# Altium footprint library LED Diode.PcbLib: 7 footprints
Each footprint in its own frame and in the unit in brackets; x right, y up, seen from the top. Pads: shape width x height; smd on the part's side, far side on the other; paste and mask are expansions set on the pad; w line width, h text height; cw(c..) or ccw(c..) is an arc to the next point about the centre after c.
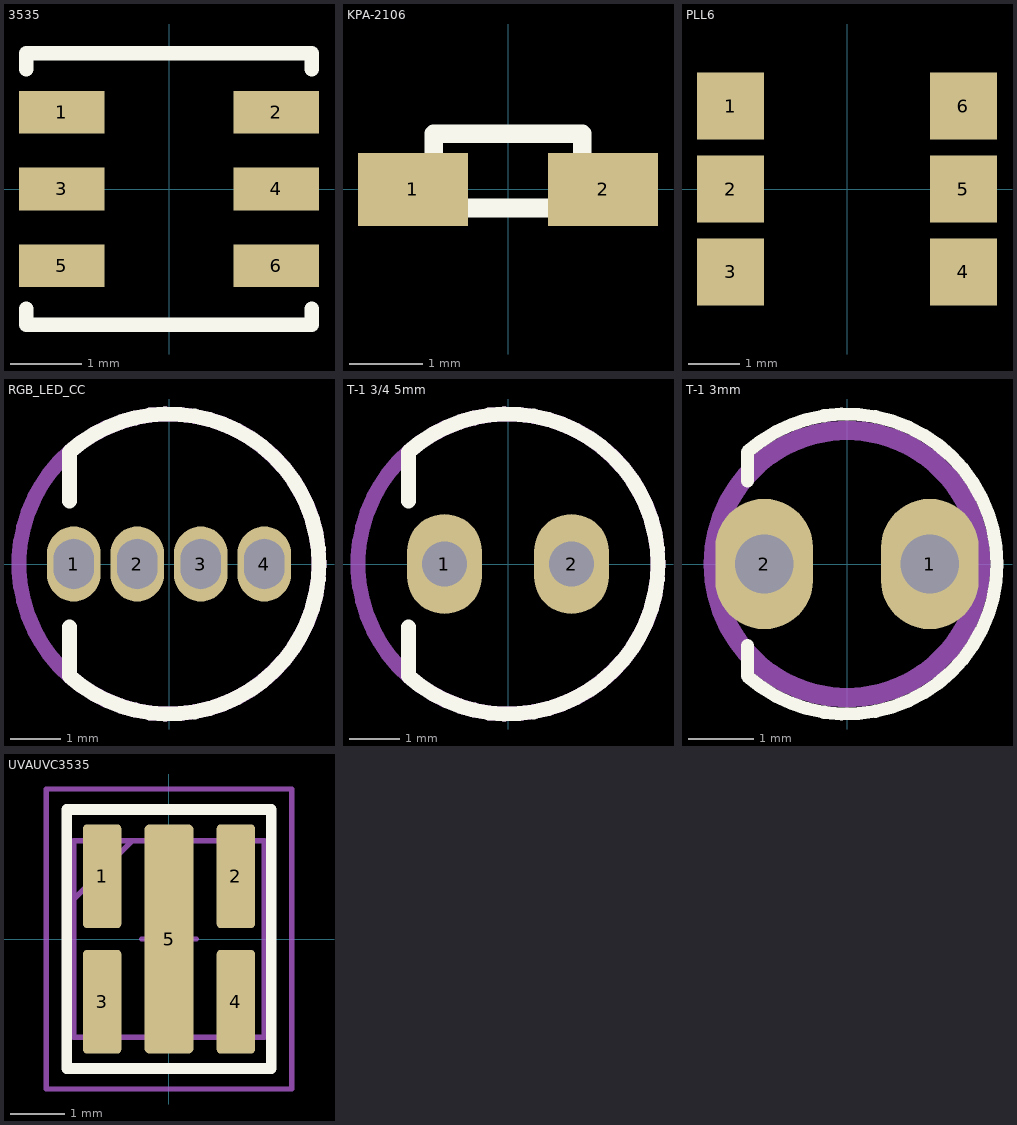
[diagram p0: the footprints below, top view; thin cyan lines are the x and y axes]

## 3535 [mm] "WE 150353M153300"
pads (6):
  rect 1.2x0.6 smd: 1(-1.5,1.075) 2(1.5,1.075) 3(-1.5,0) 4(1.5,0) 5(-1.5,-1.075) 6(1.5,-1.075)
Top Overlay:
  lines w0.2: -2,-1.675 -2,-1.9 2,-1.9 2,-1.675 ; -2,1.675 -2,1.9 2,1.9 2,1.675
3D body: height 2.8, standoff 0, extent -1.85,-1.75 1.85,1.75

## KPA-2106 [mm] "Kingbright"
pads (2):
  rect 1.5x1 smd: 1(-1.3,0) 2(1.3,0)
Top Overlay:
  lines w0.254: -1.016,-0.254 -1.016,0.762 1.016,0.762 1.016,-0.254 -1.016,-0.254
3D body: height 0.6, standoff 0, extent -1.05,-0.254 1.05,0.746

## PLL6 [mil]
height 63
pads (6):
  rect 51x51 smd: 1(-88.5,63) 2(-88.5,0) 3(-88.5,-63) 4(88.5,-63) 5(88.5,0) 6(88.5,63)
3D body: height 62.99, standoff 0, extent -98.43,-98.43 98.43,98.42
3D body: height 66.93, standoff 62.99, extent -77.31,-77.44 80.09,80

## RGB_LED_CC [mm]
pads (4):
  oval 1.07x1.5 hole 0.8 slot 1 at 90 deg unplated: 1(-1.905,0) 2(-0.635,0) 3(0.635,0) 4(1.905,0)
Top Overlay:
  lines w0.3: -1.993,-1.257 -1.993,-2.242 ccw(c0,0) -1.993,2.242 -1.993,1.257
Mechanical 1:
  circle w0.3: c0,0 r3

## T-1 3/4 5mm [mm]
pads (2):
  oval 1.5x2 hole 0.9: 1(-1.27,0) 2(1.27,0)
Top Overlay:
  lines w0.3: -1.993,-1.257 -1.993,-2.242 ccw(c0,0) -1.993,2.242 -1.993,1.257
Mechanical 1:
  circle w0.3: c0,0 r3

## T-1 3mm [mm]
pads (2):
  oval 1.5x2 hole 0.9: 1(1.27,0) 2(-1.27,0)
Top Overlay:
  lines w0.2: -1.528,-1.719 ccw(c0,0) -1.528,1.719 ; -1.525,-1.71 -1.525,-1.25 ; -1.525,1.275 -1.525,1.71
Mechanical 1:
  circle w0.3: c0,0 r2.05

## UVAUVC3535 [mm] "UVAUVC3535"
height 1.23
pads (5):
  rrect20% 0.7x1.9 smd: 1(-1.225,1.15) 2(1.225,1.15) 3(-1.225,-1.15) 4(1.225,-1.15)
  rrect20% 0.9x4.2 smd: 5(0,0)
Top Overlay:
  lines w0.2: -1.875,-2.375 1.875,-2.375 1.875,2.375 -1.875,2.375 -1.875,-2.375
Mechanical 13:
  lines w0.1: -1.75,0.725 -0.675,1.8 ; -1.75,-1.8 -1.75,1.8 1.75,1.8 1.75,-1.8 -1.75,-1.8
Mechanical 15:
  lines w0.1: -0.5,0 0.5,0 ; 0,-0.5 0,0.5 ; -2.25,-2.75 -2.25,2.75 2.25,2.75 2.25,-2.25 2.25,-2.75 -2.25,-2.75
3D body: height 0.95, standoff 0, extent -1.75,-1.8 1.75,1.8